# Altium schematic symbol library LTST-C281KGKT.SchLib: 1 symbol
Pins are listed as number, name and electrical type; pins without a type are passive.

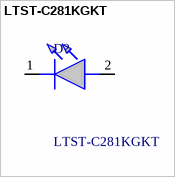
[diagram p0: symbol LTST-C281KGKT]

## LTST-C281KGKT
designator D?
Lite-On LTST-C281KGKT, LTST-C281 576.5 nm Green LED, 0402 Clear SMD package; Geometry.Height: 0.35mm; Mouser Part Number: 859-LTST-C281KGKT; Mouser Price/Stock: https://www.mouser.co.uk/ProductDetail/Lite-On/LTST-C281KGKT?qs=xb8aMrBSZRJ6%2FVAKgwiAkw%3D%3D; Manufacturer_Name: Lite-On; Manufacturer_Part_Number: LTST-C281KGKT; Datasheet Link: https://datasheet.lcsc.com/szlcsc/Lite-On-LTST-C281KGKT_C160479.pdf
footprint LEDC1005X35N
pins: 1 K, 2 A